# Altium integrated library HDMI.IntLib: 1 symbol
Pins are listed as number, name and electrical type; pins without a type are passive.

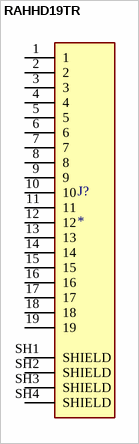
[diagram p0: symbol RAHHD19TR]

## RAHHD19TR
designator J?
HDMI HDMI 2.0 Receptacle Connector 19 Position Surface Mount, Right Angle; Through Hole; MF: Switchcraft Inc.; MP: RAHHD19TR; Package: None; Price: None; Check_prices: https://www.snapeda.com/parts/RAHHD19TR/Switchcraft+%252F+Conxall/view-part/?ref=eda; Value: *; SnapEDA_Link: https://www.snapeda.com/parts/RAHHD19TR/Switchcraft+%252F+Conxall/view-part/?ref=snap; Availability: In Stock; Purchase-URL: https://pricing.snapeda.com/search/part/RAHHD19TR/?ref=eda
footprint HDMI
pins: 1, 2, 3, 4, 5, 6, 7, 8, 9, 10, 11, 12, 13, 14, 15, 16, 17, 18, 19, SH1 SHIELD, SH2 SHIELD, SH3 SHIELD, SH4 SHIELD